# Altium footprint library 电容.PcbLib: 4 footprints
Each footprint in its own frame and in the unit in brackets; x right, y up, seen from the top. Pads: shape width x height; smd on the part's side, far side on the other; paste and mask are expansions set on the pad; w line width, h text height; cw(c..) or ccw(c..) is an arc to the next point about the centre after c.
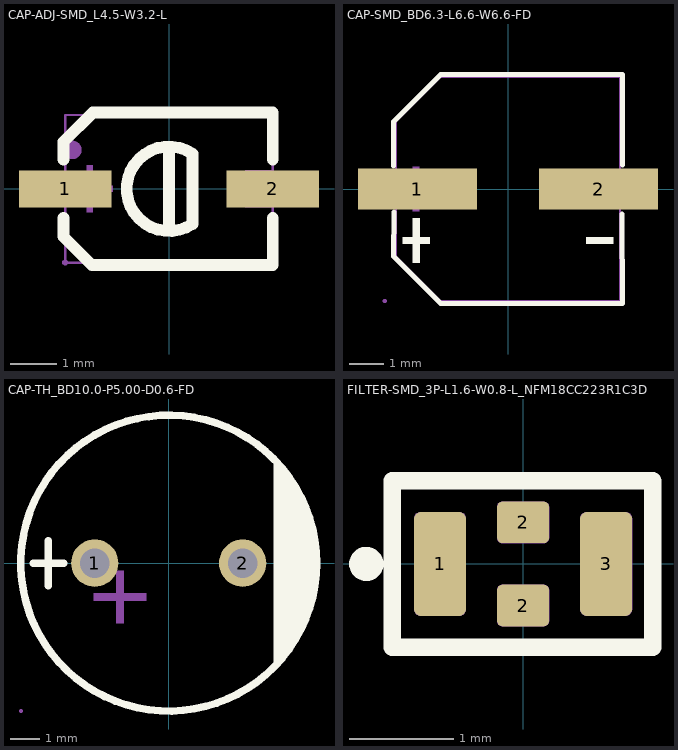
[diagram p0: the footprints below, top view; thin cyan lines are the x and y axes]

## CAP-ADJ-SMD_L4.5-W3.2-L [mm]
pads (2):
  rect 2x0.8 smd: 1(-2.25,0) 2(2.25,0)
Top Overlay:
  lines w0.254: -2.286,-0.635 -2.286,-1.035 -1.671,-1.651 2.25,-1.651 2.25,-0.635 ; -2.286,0.635 -2.286,1.017 -1.652,1.651 2.25,1.651 2.25,0.635 ; 0,-0.889 0,0.889 ; 0.508,-0.762 cw(c0,0) 0.508,0.762 0.508,-0.762
Mechanical 6:
  circle w0.2: c-2.095,0.843 r0.1
  region: -2.232,0.067 -1.216,0.067 -1.216,-0.06 -2.232,-0.06
  region: -1.778,-0.508 -1.778,0.508 -1.651,0.508 -1.651,-0.508
  region: 1.739,0.067 2.755,0.067 2.755,-0.06 1.739,-0.06
Mechanical 15:
  region: -2.19,-1.6 -2.19,-1.575 -2.225,-1.54 -2.275,-1.54 -2.31,-1.575 -2.31,-1.6 -2.31,-1.625 -2.275,-1.66 -2.225,-1.66 -2.19,-1.625 -2.19,-1.6
  region: 2.25,0.4 2.25,-0.4 1.65,-0.4 1.65,0.4
  region: -2.253,-0.375 -2.253,0.375 -1.653,0.375 -1.653,-0.375
  lines w0.051: -2.25,-1.6 -2.25,1.6 2.25,1.6 2.25,-1.6 -2.25,-1.6

## CAP-SMD_BD6.3-L6.6-W6.6-FD [mm]
pads (2):
  rect 3.5x1.2 smd: 1(-2.67,0) 2(2.67,0)
Top Overlay:
  region: -2.805,-0.858 -2.805,-2.178 -2.607,-2.178 -2.607,-0.858
  region: -3.102,-1.419 -3.102,-1.617 -2.31,-1.617 -2.31,-1.419
  region: 3.102,-1.419 3.102,-1.617 2.31,-1.617 2.31,-1.419
  lines w0.152: -3.376,0.686 -3.376,1.98 -1.98,3.376 3.376,3.376 3.369,0.708 ; -3.362,-0.686 -3.376,-1.981 -1.981,-3.376 3.376,-3.376 3.356,-0.739
Mechanical 6:
  region: -2.81,0.66 -2.81,-0.66 -2.612,-0.66 -2.612,0.66
  region: -3.102,0.099 -3.102,-0.099 -2.31,-0.099 -2.31,0.099
  region: 3.102,0.099 3.102,-0.099 2.31,-0.099 2.31,0.099
Mechanical 15:
  region: -3.634,0.325 -1.034,0.325 -1.034,-0.325 -3.634,-0.325
  region: 1.067,0.325 3.667,0.325 3.667,-0.325 1.067,-0.325
  region: -3.574,-3.3 -3.575,-3.276 -3.61,-3.242 -3.658,-3.242 -3.693,-3.276 -3.694,-3.3 -3.693,-3.324 -3.658,-3.358 -3.61,-3.358 -3.575,-3.324 -3.574,-3.3
  lines w0.051: -3.3,-1.98 -3.3,1.98 -1.98,3.3 3.3,3.3 3.3,-3.3 -1.98,-3.3 -3.3,-1.98

## CAP-TH_BD10.0-P5.00-D0.6-FD [mm]
pads (2):
  round 1.6 hole 1 paste+0 mask+0.05: 1(-2.5,0) 2(2.5,0)
Top Overlay:
  circle w0.254: c0,0 r5
  region: 3.556,3.556 3.556,-3.556 4.318,-2.54 4.826,-1.016 5.08,0.508 4.826,1.524
  lines w0.254: -4.572,0 -3.556,0 ; -4.064,-0.762 -4.064,0.762
Mechanical 6:
  region: -2.54,-1.016 -0.762,-1.016 -0.762,-1.27 -2.54,-1.27
  region: -1.778,-0.762 -1.778,-2.032 -1.524,-2.032 -1.524,-0.254 -1.778,-0.254
Mechanical 15:
  region: -2.2,0 -2.2,0.06 -2.246,0.17 -2.33,0.254 -2.44,0.3 -2.56,0.3 -2.67,0.254 -2.754,0.17 -2.8,0.06 -2.8,0 -2.8,-0.06 -2.754,-0.17 -2.67,-0.254 -2.56,-0.3 -2.44,-0.3 -2.33,-0.254 -2.246,-0.17 -2.2,-0.06 -2.2,0
  region: 2.8,0 2.8,0.06 2.754,0.17 2.67,0.254 2.56,0.3 2.44,0.3 2.33,0.254 2.246,0.17 2.2,0.06 2.2,0 2.2,-0.06 2.246,-0.17 2.33,-0.254 2.44,-0.3 2.56,-0.3 2.67,-0.254 2.754,-0.17 2.8,-0.06 2.8,0
  region: -4.94,-5 -4.94,-4.975 -4.975,-4.94 -5.025,-4.94 -5.06,-4.975 -5.06,-5 -5.06,-5.025 -5.025,-5.06 -4.975,-5.06 -4.94,-5.025 -4.94,-5
  lines w0.051: -5,0 ccw(c0,0) 5,0 ccw(c0,0) -5,0

## FILTER-SMD_3P-L1.6-W0.8-L_NFM18CC223R1C3D [mm] "SMD-3P,0.8x1.6mm; 0603"
height 4999.99
pads (4):
  rrect25% 0.5x1 smd mask+0.05: 1(-0.8,0) 3(0.8,0)
  rrect25% 0.5x0.4 smd mask+0.05: 2(0,-0.4) 2(0,0.4)
Top Overlay:
  circle w0.17: c-1.51,0 r0.08
  region: -0.74,-0.4 -0.741,-0.388 -0.745,-0.377 -0.75,-0.367 -0.758,-0.358 -0.767,-0.35 -0.777,-0.345 -0.788,-0.341 -0.8,-0.34 -0.812,-0.341 -0.823,-0.345 -0.833,-0.35 -0.842,-0.358 -0.85,-0.367 -0.855,-0.377 -0.859,-0.388 -0.86,-0.4 -0.859,-0.412 -0.855,-0.423 -0.85,-0.433 -0.842,-0.442 -0.833,-0.45 -0.823,-0.455 -0.812,-0.459 -0.8,-0.46 -0.788,-0.459 -0.777,-0.455 -0.767,-0.45 -0.758,-0.442 -0.75,-0.433 -0.745,-0.423 -0.741,-0.412
  lines w0.17: -1.26,0.8 1.25,0.8 1.25,-0.801 -1.26,-0.801 -1.26,0.8 ; -1.26,0.8 -1.26,0.8
Mechanical 9:
  drawing of 4 lines, arcs and shapes, not listed
3D body "FILTER-SMD_3P-L1.6-W0.8-H0.5.step": height 0.5, standoff 0, extent -0.8,-0.4 0.8,0.4